# Altium schematic symbol library SCH - MCU - STM32 - ST MICROELECTRONICS STM32G484METX LQFP80.SchLib: 1 symbol
Pins are listed as number, name and electrical type; pins without a type are passive.

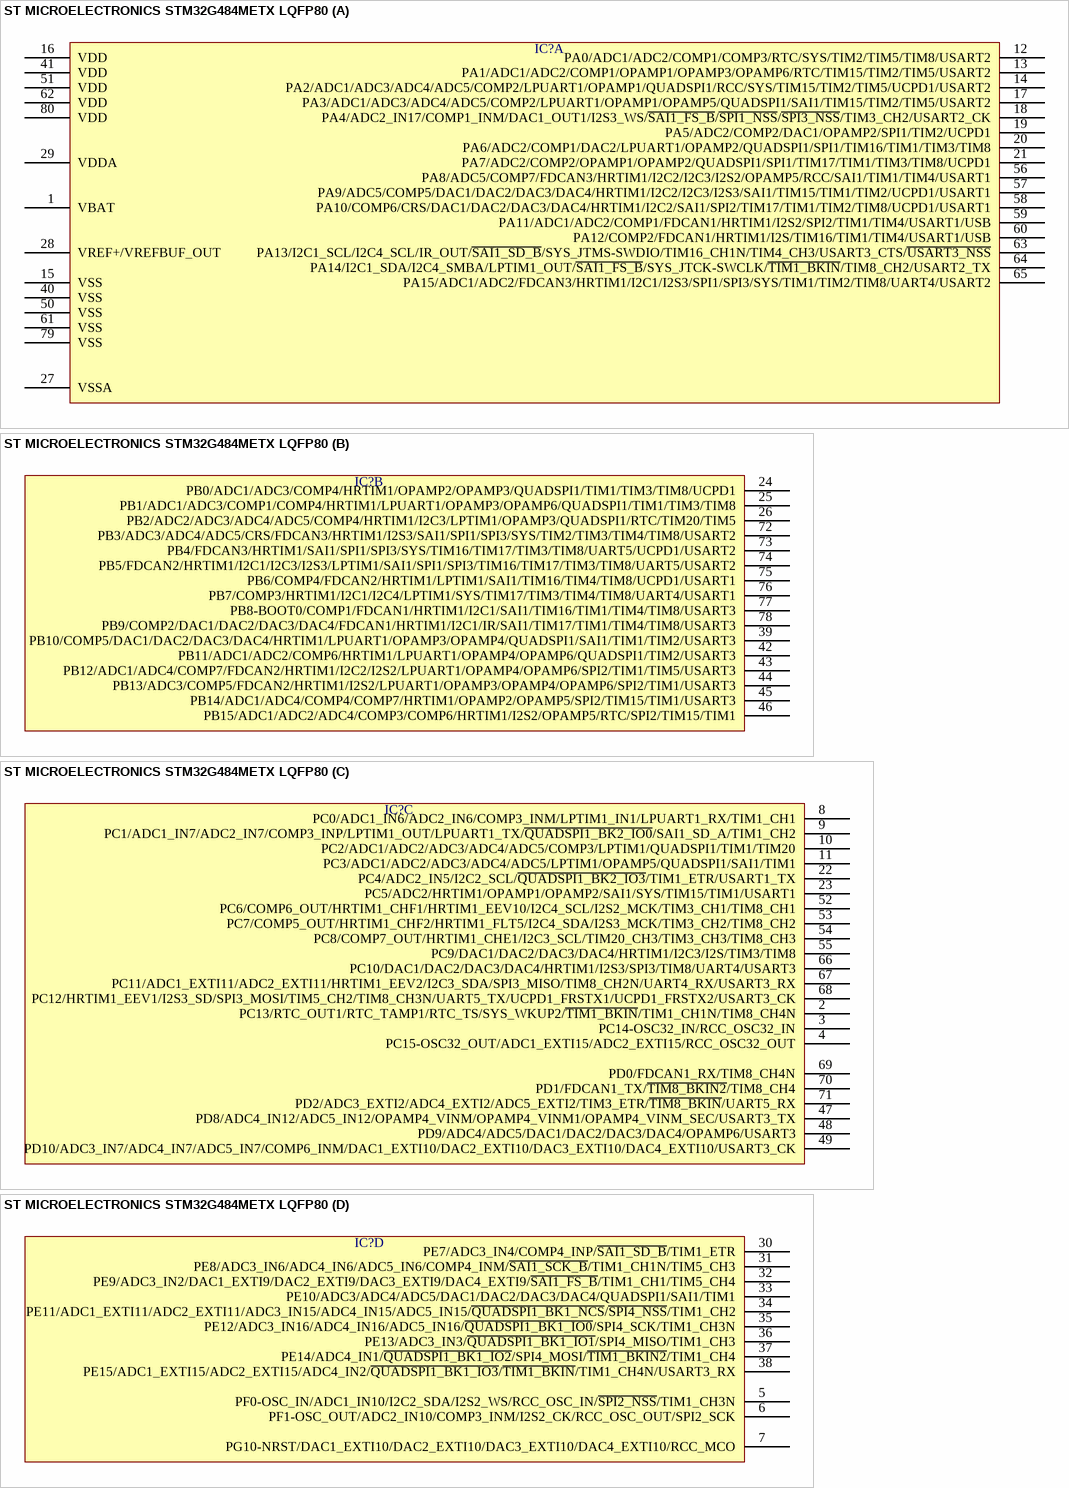
[diagram p0: symbol ST MICROELECTRONICS STM32G484METX LQFP80]

## ST MICROELECTRONICS STM32G484METX LQFP80
designator IC?  (value not drawn)
part A pins: 1 VBAT, 12 PA0/ADC1/ADC2/COMP1/COMP3/RTC/SYS/TIM2/TIM5/TIM8/USART2, 13 PA1/ADC1/ADC2/COMP1/OPAMP1/OPAMP3/OPAMP6/RTC/TIM15/TIM2/TIM5/USART2, 14 PA2/ADC1/ADC3/ADC4/ADC5/COMP2/LPUART1/OPAMP1/QUADSPI1/RCC/SYS/TIM15/TIM2/TIM5/UCPD1/USART2, 15 VSS, 16 VDD, 17 PA3/ADC1/ADC3/ADC4/ADC5/COMP2/LPUART1/OPAMP1/OPAMP5/QUADSPI1/SAI1/TIM15/TIM2/TIM5/USART2, 18 PA4/ADC2_IN17/COMP1_INM/DAC1_OUT1/I2S3_WS/~{SAI1_FS_B}/~{SPI1_NSS}/~{SPI3_NSS}/TIM3_CH2/USART2_CK, 19 PA5/ADC2/COMP2/DAC1/OPAMP2/SPI1/TIM2/UCPD1, 20 PA6/ADC2/COMP1/DAC2/LPUART1/OPAMP2/QUADSPI1/SPI1/TIM16/TIM1/TIM3/TIM8, 21 PA7/ADC2/COMP2/OPAMP1/OPAMP2/QUADSPI1/SPI1/TIM17/TIM1/TIM3/TIM8/UCPD1, 27 VSSA, 28 VREF+/VREFBUF_OUT, 29 VDDA, 40 VSS, 41 VDD, 50 VSS, 51 VDD, 56 PA8/ADC5/COMP7/FDCAN3/HRTIM1/I2C2/I2C3/I2S2/OPAMP5/RCC/SAI1/TIM1/TIM4/USART1, 57 PA9/ADC5/COMP5/DAC1/DAC2/DAC3/DAC4/HRTIM1/I2C2/I2C3/I2S3/SAI1/TIM15/TIM1/TIM2/UCPD1/USART1, 58 PA10/COMP6/CRS/DAC1/DAC2/DAC3/DAC4/HRTIM1/I2C2/SAI1/SPI2/TIM17/TIM1/TIM2/TIM8/UCPD1/USART1, 59 PA11/ADC1/ADC2/COMP1/FDCAN1/HRTIM1/I2S2/SPI2/TIM1/TIM4/USART1/USB, 60 PA12/COMP2/FDCAN1/HRTIM1/I2S/TIM16/TIM1/TIM4/USART1/USB, 61 VSS, 62 VDD, 63 PA13/I2C1_SCL/I2C4_SCL/IR_OUT/~{SAI1_SD_B}/SYS_JTMS-SWDIO/TIM16_CH1N/TIM4_CH3/USART3_CTS/~{USART3_NSS}, 64 PA14/I2C1_SDA/I2C4_SMBA/LPTIM1_OUT/~{SAI1_FS_B}/SYS_JTCK-SWCLK/~{TIM1_BKIN}/TIM8_CH2/USART2_TX, 65 PA15/ADC1/ADC2/FDCAN3/HRTIM1/I2C1/I2S3/SPI1/SPI3/SYS/TIM1/TIM2/TIM8/UART4/USART2, 79 VSS, 80 VDD
part B pins: 24 PB0/ADC1/ADC3/COMP4/HRTIM1/OPAMP2/OPAMP3/QUADSPI1/TIM1/TIM3/TIM8/UCPD1, 25 PB1/ADC1/ADC3/COMP1/COMP4/HRTIM1/LPUART1/OPAMP3/OPAMP6/QUADSPI1/TIM1/TIM3/TIM8, 26 PB2/ADC2/ADC3/ADC4/ADC5/COMP4/HRTIM1/I2C3/LPTIM1/OPAMP3/QUADSPI1/RTC/TIM20/TIM5, 39 PB10/COMP5/DAC1/DAC2/DAC3/DAC4/HRTIM1/LPUART1/OPAMP3/OPAMP4/QUADSPI1/SAI1/TIM1/TIM2/USART3, 42 PB11/ADC1/ADC2/COMP6/HRTIM1/LPUART1/OPAMP4/OPAMP6/QUADSPI1/TIM2/USART3, 43 PB12/ADC1/ADC4/COMP7/FDCAN2/HRTIM1/I2C2/I2S2/LPUART1/OPAMP4/OPAMP6/SPI2/TIM1/TIM5/USART3, 44 PB13/ADC3/COMP5/FDCAN2/HRTIM1/I2S2/LPUART1/OPAMP3/OPAMP4/OPAMP6/SPI2/TIM1/USART3, 45 PB14/ADC1/ADC4/COMP4/COMP7/HRTIM1/OPAMP2/OPAMP5/SPI2/TIM15/TIM1/USART3, 46 PB15/ADC1/ADC2/ADC4/COMP3/COMP6/HRTIM1/I2S2/OPAMP5/RTC/SPI2/TIM15/TIM1, 72 PB3/ADC3/ADC4/ADC5/CRS/FDCAN3/HRTIM1/I2S3/SAI1/SPI1/SPI3/SYS/TIM2/TIM3/TIM4/TIM8/USART2, 73 PB4/FDCAN3/HRTIM1/SAI1/SPI1/SPI3/SYS/TIM16/TIM17/TIM3/TIM8/UART5/UCPD1/USART2, 74 PB5/FDCAN2/HRTIM1/I2C1/I2C3/I2S3/LPTIM1/SAI1/SPI1/SPI3/TIM16/TIM17/TIM3/TIM8/UART5/USART2, 75 PB6/COMP4/FDCAN2/HRTIM1/LPTIM1/SAI1/TIM16/TIM4/TIM8/UCPD1/USART1, 76 PB7/COMP3/HRTIM1/I2C1/I2C4/LPTIM1/SYS/TIM17/TIM3/TIM4/TIM8/UART4/USART1, 77 PB8-BOOT0/COMP1/FDCAN1/HRTIM1/I2C1/SAI1/TIM16/TIM1/TIM4/TIM8/USART3, 78 PB9/COMP2/DAC1/DAC2/DAC3/DAC4/FDCAN1/HRTIM1/I2C1/IR/SAI1/TIM17/TIM1/TIM4/TIM8/USART3
part C pins: 2 PC13/RTC_OUT1/RTC_TAMP1/RTC_TS/SYS_WKUP2/~{TIM1_BKIN}/TIM1_CH1N/TIM8_CH4N, 3 PC14-OSC32_IN/RCC_OSC32_IN, 4 PC15-OSC32_OUT/ADC1_EXTI15/ADC2_EXTI15/RCC_OSC32_OUT, 8 PC0/ADC1_IN6/ADC2_IN6/COMP3_INM/LPTIM1_IN1/LPUART1_RX/TIM1_CH1, 9 PC1/ADC1_IN7/ADC2_IN7/COMP3_INP/LPTIM1_OUT/LPUART1_TX/~{QUADSPI1_BK2_IO0}/SAI1_SD_A/TIM1_CH2, 10 PC2/ADC1/ADC2/ADC3/ADC4/ADC5/COMP3/LPTIM1/QUADSPI1/TIM1/TIM20, 11 PC3/ADC1/ADC2/ADC3/ADC4/ADC5/LPTIM1/OPAMP5/QUADSPI1/SAI1/TIM1, 22 PC4/ADC2_IN5/I2C2_SCL/~{QUADSPI1_BK2_IO3}/TIM1_ETR/USART1_TX, 23 PC5/ADC2/HRTIM1/OPAMP1/OPAMP2/SAI1/SYS/TIM15/TIM1/USART1, 47 PD8/ADC4_IN12/ADC5_IN12/OPAMP4_VINM/OPAMP4_VINM1/OPAMP4_VINM_SEC/USART3_TX, 48 PD9/ADC4/ADC5/DAC1/DAC2/DAC3/DAC4/OPAMP6/USART3, 49 PD10/ADC3_IN7/ADC4_IN7/ADC5_IN7/COMP6_INM/DAC1_EXTI10/DAC2_EXTI10/DAC3_EXTI10/DAC4_EXTI10/USART3_CK, 52 PC6/COMP6_OUT/HRTIM1_CHF1/HRTIM1_EEV10/I2C4_SCL/I2S2_MCK/TIM3_CH1/TIM8_CH1, 53 PC7/COMP5_OUT/HRTIM1_CHF2/HRTIM1_FLT5/I2C4_SDA/I2S3_MCK/TIM3_CH2/TIM8_CH2, 54 PC8/COMP7_OUT/HRTIM1_CHE1/I2C3_SCL/TIM20_CH3/TIM3_CH3/TIM8_CH3, 55 PC9/DAC1/DAC2/DAC3/DAC4/HRTIM1/I2C3/I2S/TIM3/TIM8, 66 PC10/DAC1/DAC2/DAC3/DAC4/HRTIM1/I2S3/SPI3/TIM8/UART4/USART3, 67 PC11/ADC1_EXTI11/ADC2_EXTI11/HRTIM1_EEV2/I2C3_SDA/SPI3_MISO/TIM8_CH2N/UART4_RX/USART3_RX, 68 PC12/HRTIM1_EEV1/I2S3_SD/SPI3_MOSI/TIM5_CH2/TIM8_CH3N/UART5_TX/UCPD1_FRSTX1/UCPD1_FRSTX2/USART3_CK, 69 PD0/FDCAN1_RX/TIM8_CH4N, 70 PD1/FDCAN1_TX/~{TIM8_BKIN2}/TIM8_CH4, 71 PD2/ADC3_EXTI2/ADC4_EXTI2/ADC5_EXTI2/TIM3_ETR/~{TIM8_BKIN}/UART5_RX
part D pins: 5 PF0-OSC_IN/ADC1_IN10/I2C2_SDA/I2S2_WS/RCC_OSC_IN/~{SPI2_NSS}/TIM1_CH3N, 6 PF1-OSC_OUT/ADC2_IN10/COMP3_INM/I2S2_CK/RCC_OSC_OUT/SPI2_SCK, 7 PG10-NRST/DAC1_EXTI10/DAC2_EXTI10/DAC3_EXTI10/DAC4_EXTI10/RCC_MCO, 30 PE7/ADC3_IN4/COMP4_INP/~{SAI1_SD_B}/TIM1_ETR, 31 PE8/ADC3_IN6/ADC4_IN6/ADC5_IN6/COMP4_INM/~{SAI1_SCK_B}/TIM1_CH1N/TIM5_CH3, 32 PE9/ADC3_IN2/DAC1_EXTI9/DAC2_EXTI9/DAC3_EXTI9/DAC4_EXTI9/~{SAI1_FS_B}/TIM1_CH1/TIM5_CH4, 33 PE10/ADC3/ADC4/ADC5/DAC1/DAC2/DAC3/DAC4/QUADSPI1/SAI1/TIM1, 34 PE11/ADC1_EXTI11/ADC2_EXTI11/ADC3_IN15/ADC4_IN15/ADC5_IN15/~{QUADSPI1_BK1_NCS}/~{SPI4_NSS}/TIM1_CH2, 35 PE12/ADC3_IN16/ADC4_IN16/ADC5_IN16/~{QUADSPI1_BK1_IO0}/SPI4_SCK/TIM1_CH3N, 36 PE13/ADC3_IN3/~{QUADSPI1_BK1_IO1}/SPI4_MISO/TIM1_CH3, 37 PE14/ADC4_IN1/~{QUADSPI1_BK1_IO2}/SPI4_MOSI/~{TIM1_BKIN2}/TIM1_CH4, 38 PE15/ADC1_EXTI15/ADC2_EXTI15/ADC4_IN2/~{QUADSPI1_BK1_IO3}/~{TIM1_BKIN}/TIM1_CH4N/USART3_RX